# Altium footprint library B9_HashBoard.PcbLib: 47 footprints (part 2 of 3)
Each footprint in its own frame and in the unit in brackets; x right, y up, seen from the top. Pads: shape width x height; smd on the part's side, far side on the other; paste and mask are expansions set on the pad; w line width, h text height; cw(c..) or ccw(c..) is an arc to the next point about the centre after c.
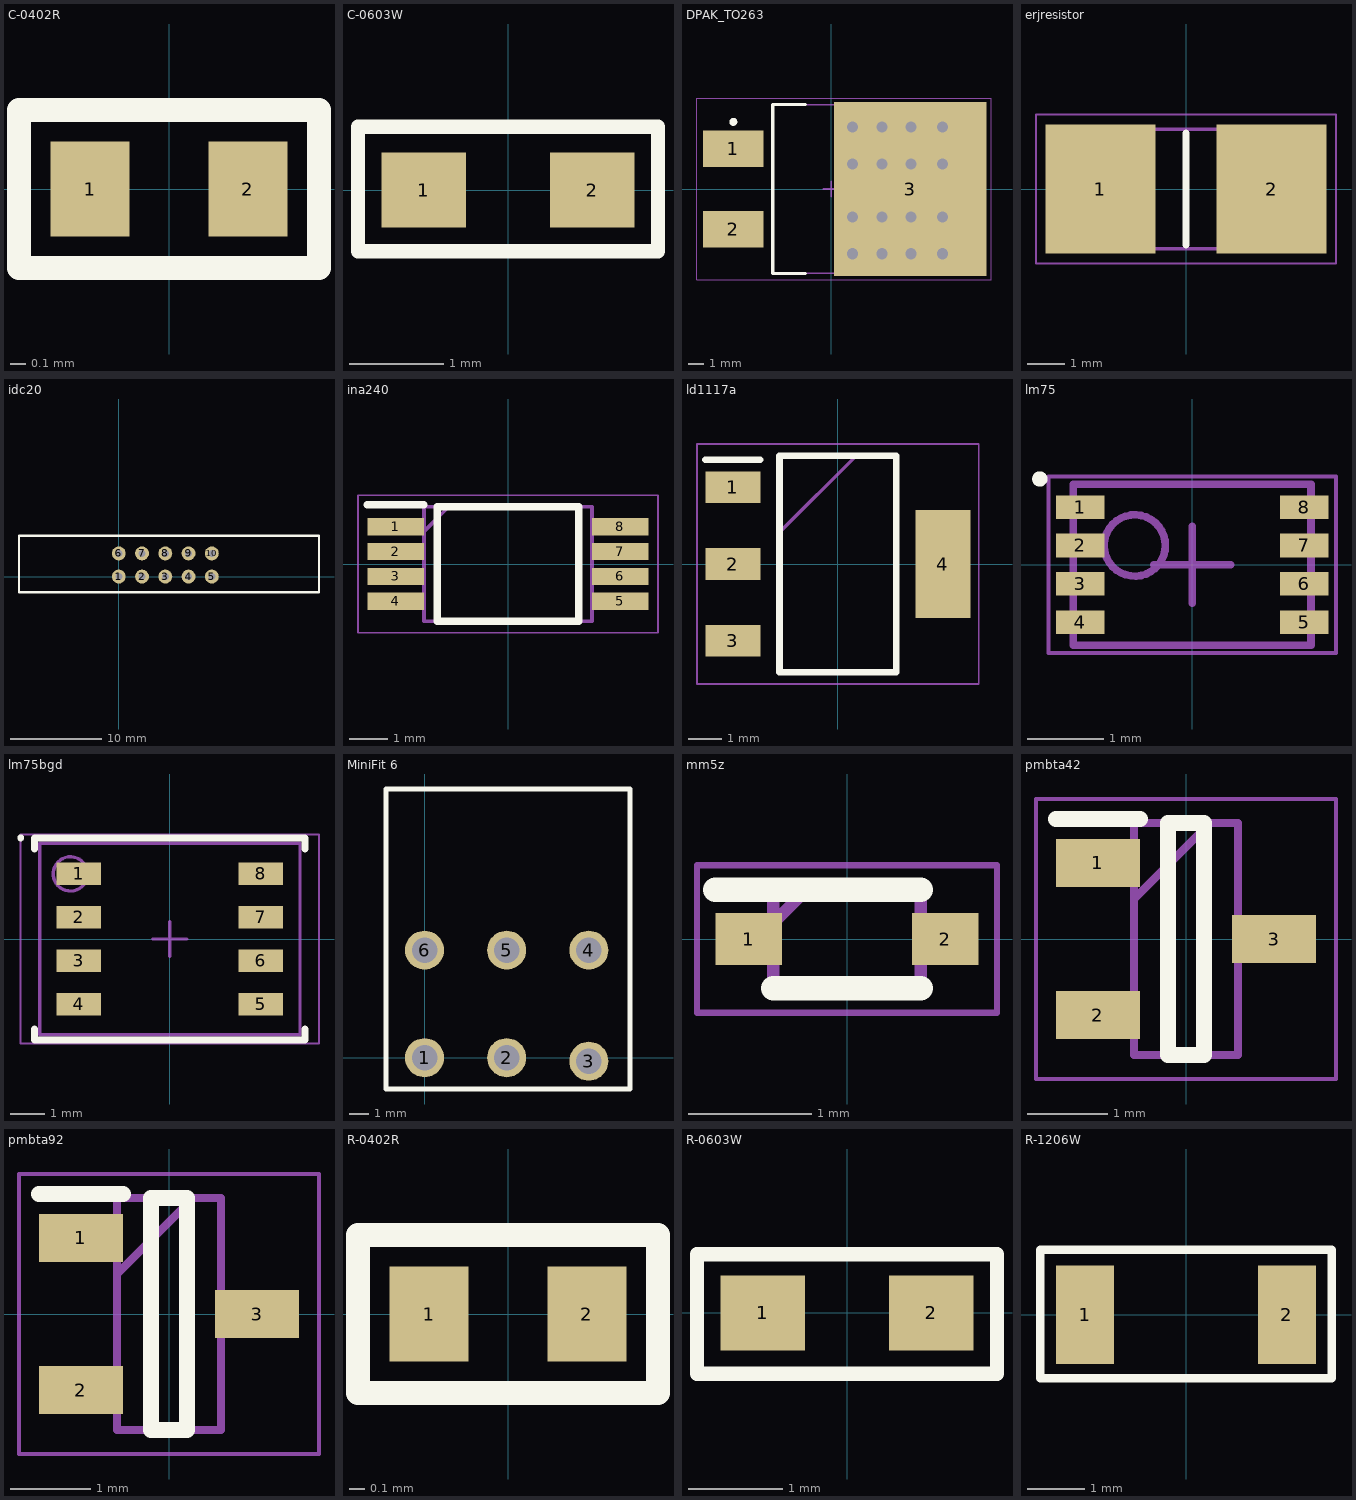
[diagram p1: the footprints below, top view; thin cyan lines are the x and y axes]

## C-0402R [mm] "Capacitor 0402 reflow soldering"
pads (2):
  rect 0.5x0.6 smd: 1(-0.5,0) 2(0.5,0)
Top Overlay:
  lines w0.152: 0.5,-0.5 0.95,-0.5 0.95,0.5 0.5,0.5 -0.95,0.5 -0.95,-0.5 0.508,-0.5
3D body "CAP0402.stp": height 0.2, standoff 0, extent -0.5,-0.3 0.5,0.3

## C-0603W [mm] "capacitor 0603 wave soldering"
pads (2):
  rect 0.9x0.8 smd: 1(-0.9,0) 2(0.9,0)
Top Overlay:
  lines w0.152: -1.6,-0.65 -1.6,0.675 0.525,0.675 1.6,0.675 1.6,-0.65 0.55,-0.65 -1.6,-0.65
3D body "CAP0603.stp": height 0.3, standoff 0, extent -0.8,-0.4 0.8,0.4

## DPAK_TO263 [mm] "D2-PAK, 3-Pads, Body 7.93x8.70mm (max), IPC Medium Density"
height 4.8
pads (3):
  rect 3.81x2.32 smd: 1(-6.2,2.54) 2(-6.2,-2.54)
  rect 9.65x11 smd: 3(5,0)
via 7.05,-4.1 diameter 1.27 hole 0.711
via 5.05,-4.1 diameter 1.27 hole 0.711
via 3.225,-4.1 diameter 1.27 hole 0.711
via 1.35,-4.1 diameter 1.27 hole 0.711
via 7.05,-1.775 diameter 1.27 hole 0.711
via 5.05,-1.775 diameter 1.27 hole 0.711
via 3.225,-1.775 diameter 1.27 hole 0.711
via 1.35,-1.775 diameter 1.27 hole 0.711
via 7.05,1.575 diameter 1.27 hole 0.711
via 5.05,1.575 diameter 1.27 hole 0.711
via 3.225,1.575 diameter 1.27 hole 0.711
via 1.35,1.575 diameter 1.27 hole 0.711
via 7.05,3.925 diameter 1.27 hole 0.711
via 5.05,3.925 diameter 1.27 hole 0.711
via 3.225,3.925 diameter 1.27 hole 0.711
via 1.35,3.925 diameter 1.27 hole 0.711
Top Overlay:
  circle w0.25: c-6.2,4.25 r0.125
  lines w0.2: -1.625,-5.35 -3.7,-5.35 -3.7,5.35 -1.625,5.35
Top Assembly:
  lines w0.1: -3.7,-5.325 -3.7,5.325 5.95,5.325 5.95,-5.325 -3.7,-5.325
Top Courtyard:
  lines w0.05: -8.5,-5.75 -8.5,5.75 10.125,5.75 10.125,-5.75 -8.5,-5.75
  lines w0.1: -0.5,0 0.5,0 ; 0,-0.5 0,0.5
3D body "User Library-TO263-3S.STEP": height 4.81, standoff 0.01, extent -7.515,-4.975 8.155,5.025

## erjresistor [mm]
pads (2):
  rect 2.95x3.45 smd: 1(-2.3,0) 2(2.3,0)
Top Overlay:
  lines w0.2: 0,-1.5 0,1.5
Mechanical 13:
  lines w0.1: -3.2,-1.6 -3.2,1.6 3.2,1.6 3.2,-1.6 -3.2,-1.6
Mechanical 15:
  lines w0.05: -4.025,-2 -4.025,2 4.025,2 4.025,-2 -4.025,-2
3D body "ERJ-M1WTF2M0U.stp": height 1.1, standoff 0, extent -3.2,-1.6 3.2,1.6

## idc20 [mil]
pads (10):
  round 60 hole 30: 1(0,0) 2(100,0) 3(200,0) 4(300,0) 5(400,0) 6(0,100) 7(100,100) 8(200,100) 9(300,100) 10(400,100)
Top Overlay:
  lines w10: -429,-67.76 -169.57,-67.76 861,-67.76 861,176.18 -429,176.18 -429,-67.76
3D body "20-Pin Shrouded Header (IDC) Straight.stp": height 350.5, standoff -167.85, extent -329,-140 821,228.94

## ina240 [mm]
pads (8):
  rect 1.475x0.45 smd: 1(-2.938,0.975) 2(-2.938,0.325) 3(-2.938,-0.325) 4(-2.938,-0.975) 5(2.938,-0.975) 6(2.938,-0.325) 7(2.938,0.325) 8(2.938,0.975)
Top Overlay:
  lines w0.2: -3.675,1.55 -2.2,1.55 ; -1.85,-1.5 -1.85,1.5 1.85,1.5 1.85,-1.5 -1.85,-1.5
Mechanical 13:
  lines w0.1: -2.2,0.85 -1.55,1.5 ; -2.2,-1.5 -2.2,1.5 2.2,1.5 2.2,-1.5 -2.2,-1.5
Mechanical 15:
  lines w0.05: -3.925,-1.8 -3.925,1.8 3.925,1.8 3.925,-1.8 -3.925,-1.8
3D body "INA240A2PWR.stp": height 1.2, standoff 0, extent -3.2,-1.5 3.2,1.5

## ld1117a [mm]
pads (4):
  rect 1.65x0.95 smd: 1(-3.15,2.3) 2(-3.15,0) 3(-3.15,-2.3)
  rect 1.65x3.25 smd: 4(3.15,0)
Top Overlay:
  lines w0.2: -3.975,3.125 -2.325,3.125 ; -1.75,-3.25 -1.75,3.25 1.75,3.25 1.75,-3.25 -1.75,-3.25
Mechanical 13:
  lines w0.1: -1.75,0.95 0.55,3.25 ; -1.75,-3.25 -1.75,3.25 1.75,3.25 1.75,-3.25 -1.75,-3.25
Mechanical 15:
  lines w0.05: -4.225,-3.6 -4.225,3.6 4.225,3.6 4.225,-3.6 -4.225,-3.6
3D body "LD1117AS33TR.stp": height 1.9, standoff 0, extent -3.5,-3.25 3.5,3.25

## lm75 [mm] "PSON, 8-Leads, Body 2.1x3.1mm, Pitch 0.5mm, IPC High Density"
height 0.5
pads (8):
  rect 0.63x0.31 smd mask+0: 1(-1.46,0.75) 2(-1.46,0.25) 3(-1.46,-0.25) 4(-1.46,-0.75) 5(1.46,-0.75) 6(1.46,-0.25) 7(1.46,0.25) 8(1.46,0.75)
Top Overlay:
  circle w0.1: c-1.987,1.117 r0.05
Mechanical 13:
  circle w0.1: c-0.75,0.25 r0.4
  lines w0.1: -1.55,-1.05 1.55,-1.05 1.55,1.05 -1.55,1.05 -1.55,-1.05
Mechanical 15:
  lines w0.05: -1.875,-1.15 1.875,-1.15 1.875,1.15 -1.875,1.15 -1.875,-1.15
  lines w0.1: -0.5,0 0.5,0 ; 0,-0.5 0,0.5
3D body: height 0.5, standoff 0, extent -1.55,-1.05 1.55,1.05

## lm75bgd [mm] "SON, 8-Leads, Body 5,55x7,50mm, Pitch 1,27mm, IPC Medium Density"
height 2.65
pads (8):
  rect 1.3x0.65 smd: 1(-2.65,1.905) 2(-2.65,0.635) 3(-2.65,-0.635) 4(-2.65,-1.905) 5(2.65,-1.905) 6(2.65,-0.635) 7(2.65,0.635) 8(2.65,1.905)
Top Overlay:
  circle w0.1: c-4.35,2.95 r0.05
  lines w0.2: -3.95,-2.63 -3.95,-2.95 3.95,-2.95 3.95,-2.63 ; -3.95,2.63 -3.95,2.95 3.95,2.95 3.95,2.63
Mechanical 13:
  circle w0.1: c-2.9,1.9 r0.5
  lines w0.1: -3.8,-2.8 3.8,-2.8 3.8,2.8 -3.8,2.8 -3.8,-2.8
Mechanical 15:
  lines w0.05: -4.355,-3.05 4.355,-3.05 4.355,3.05 -4.355,3.05 -4.355,-3.05
  lines w0.1: -0.5,0 0.5,0 ; 0,-0.5 0,0.5
3D body: height 2.65, standoff 0.1, extent -3.8,-2.8 3.8,2.8

## MiniFit 6 [mm]
pads (6):
  round 2 hole 1.3: 1(0,0) 2(4.2,0) 3(8.4,-0.178) 4(8.4,5.5) 5(4.2,5.5) 6(0,5.5)
Top Overlay:
  lines w0.254: -1.981,9.068 -1.981,-1.245 ; -1.981,-1.245 -1.981,13.741 5.74,13.741 10.516,13.741 10.516,8.966 10.516,-1.6 -1.981,-1.6 -1.981,-1.245
3D body "4749.stp": height 11.41, standoff -3.59, extent -3.126,-0.595 11.074,19.34

## mm5z [mm]
pads (2):
  rect 0.54x0.42 smd: 1(-0.8,0) 2(0.8,0)
Top Overlay:
  lines w0.2: -1.07,0.4 0.6,0.4 ; -0.6,-0.4 0.6,-0.4
Mechanical 13:
  lines w0.1: -0.6,0.13 -0.33,0.4 ; -0.6,-0.4 0.6,-0.4 0.6,0.4 -0.6,0.4 -0.6,-0.4
Mechanical 15:
  lines w0.05: -1.22,-0.6 1.22,-0.6 1.22,0.6 -1.22,0.6 -1.22,-0.6
3D body "1N4148WT.stp": height 0.7, standoff 0, extent -0.8,-0.4 0.8,0.4

## pmbta42 [mm]
pads (3):
  rect 1.05x0.6 smd: 1(-1.1,0.95) 2(-1.1,-0.95) 3(1.1,0)
Top Overlay:
  lines w0.2: -1.625,1.5 -0.575,1.5 ; -0.225,-1.45 -0.225,1.45 0.225,1.45 0.225,-1.45 -0.225,-1.45
Mechanical 13:
  lines w0.1: -0.65,0.5 0.3,1.45 ; -0.65,-1.45 -0.65,1.45 0.65,1.45 0.65,-1.45 -0.65,-1.45
Mechanical 15:
  lines w0.05: -1.875,-1.75 -1.875,1.75 1.875,1.75 1.875,-1.75 -1.875,-1.75
3D body "PMBTA92,215.stp": height 1.1, standoff 0, extent -1.15,-1.45 1.15,1.45

## pmbta92 [mm]
pads (3):
  rect 1.05x0.6 smd: 1(-1.1,0.95) 2(-1.1,-0.95) 3(1.1,0)
Top Overlay:
  lines w0.2: -1.625,1.5 -0.575,1.5 ; -0.225,-1.45 0.225,-1.45 0.225,1.45 -0.225,1.45 -0.225,-1.45
Mechanical 13:
  lines w0.1: -0.65,0.5 0.3,1.45 ; -0.65,-1.45 0.65,-1.45 0.65,1.45 -0.65,1.45 -0.65,-1.45
Mechanical 15:
  lines w0.05: -1.875,-1.75 1.875,-1.75 1.875,1.75 -1.875,1.75 -1.875,-1.75
3D body "PMBTA92,215.stp": height 1.1, standoff 0, extent -1.15,-1.45 1.15,1.45

## R-0402R [mm] "resistor 0402 reflow soldering"
pads (2):
  rect 0.5x0.6 smd: 1(-0.5,0) 2(0.5,0)
Top Overlay:
  lines w0.152: -0.95,-0.5 -0.95,0.5 0.5,0.5 0.95,0.5 0.95,-0.5 0.5,-0.5 -0.95,-0.5
3D body "RES0402.stp": height 0.3, standoff 0, extent -0.5,-0.25 0.5,0.25

## R-0603W [mm] "resistor 0603 wave soldering"
pads (2):
  rect 0.9x0.8 smd: 1(-0.9,0) 2(0.9,0)
Top Overlay:
  lines w0.152: -1.6,-0.65 0.5,-0.65 1.6,-0.65 1.6,0.625 0.475,0.625 -1.6,0.625 -1.6,-0.65
3D body "res0603.stp": height 0.45, standoff 0, extent -0.8,-0.4 0.8,0.4

## R-1206W [mm] "resistor 1206 wave soldering"
pads (2):
  rect 1x1.7 smd: 1(-1.75,0) 2(1.75,0)
Top Overlay:
  lines w0.152: -2.525,-1.1 -2.525,1.125 1.605,1.125 2.525,1.125 2.525,-1.1 -2.525,-1.1
3D body "RES1206.stp": height 0.55, standoff 0, extent -1.55,-0.775 1.55,0.777